# Altium footprint library Male Headers 36 Pin.PcbLib: 1 footprints
Each footprint in its own frame and in the unit in brackets; x right, y up, seen from the top. Pads: shape width x height; smd on the part's side, far side on the other; paste and mask are expansions set on the pad; w line width, h text height; cw(c..) or ccw(c..) is an arc to the next point about the centre after c.
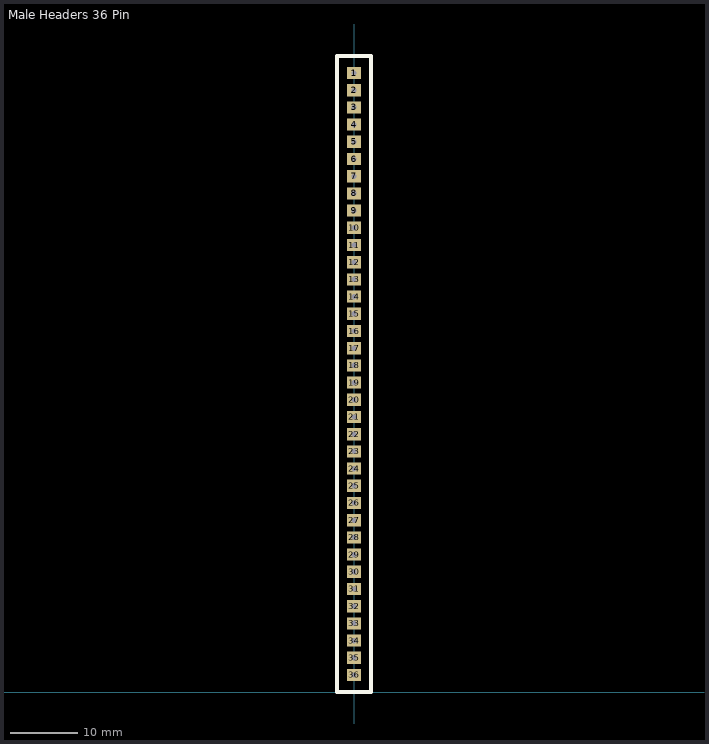
[diagram p0: the footprint, top view; thin cyan lines are the x and y axes]

## Male Headers 36 Pin [mm]
pads (36):
  rect 2x1.8 hole 0.8: 1(0,91.44) 2(0,88.9) 3(0,86.36) 4(0,83.82) 5(0,81.28) 6(0,78.74) 7(0,76.2) 8(0,73.66) 9(0,71.12) 10(0,68.58) 11(0,66.04) 12(0,63.5) 13(0,60.96) 14(0,58.42) 15(0,55.88) 16(0,53.34) 17(0,50.8) 18(0,48.26) 19(0,45.72) 20(0,43.18) 21(0,40.64) 22(0,38.1) 23(0,35.56) 24(0,33.02) 25(0,30.48) 26(0,27.94) 27(0,25.4) 28(0,22.86) 29(0,20.32) 30(0,17.78) 31(0,15.24) 32(0,12.7) 33(0,10.16) 34(0,7.62) 35(0,5.08) 36(0,2.54)
Top Overlay:
  lines w0.6: -2.54,0 -2.54,93.98 2.54,93.98 2.54,0 -2.54,0